# Altium footprint library CAP AL TH D12.5 L5 H26.5.PCBLIB: 1 footprints
Each footprint in its own frame and in the unit in brackets; x right, y up, seen from the top. Pads: shape width x height; smd on the part's side, far side on the other; paste and mask are expansions set on the pad; w line width, h text height; cw(c..) or ccw(c..) is an arc to the next point about the centre after c.
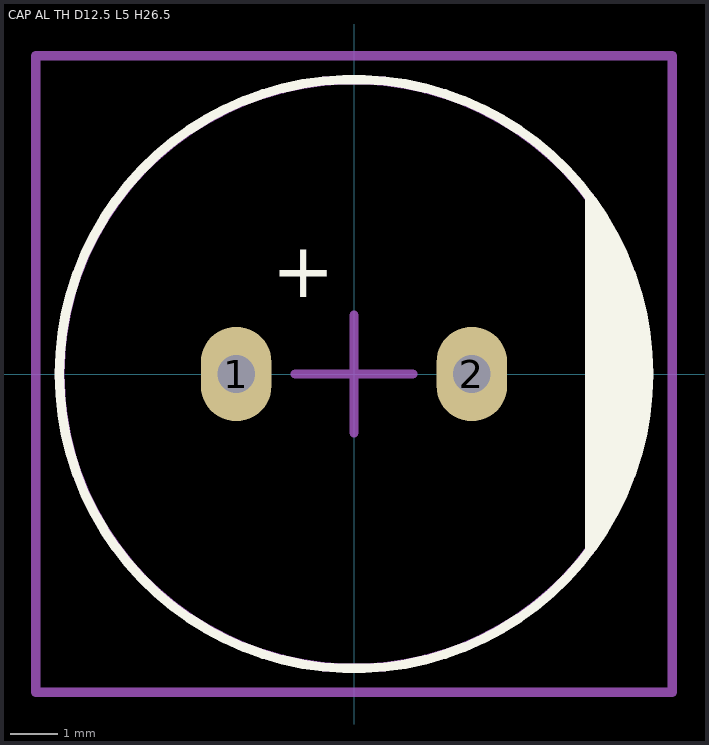
[diagram p0: the footprint, top view; thin cyan lines are the x and y axes]

## CAP AL TH D12.5 L5 H26.5 [mm] "12.5MM Diameter, 5MM Lead Spacing Aluminium Capacitor"
height 26.5
pads (2):
  oval 1.5x2 hole 0.8: 1(-2.5,0) 2(2.5,0)
Top Overlay:
  circle w0.2: c0,0 r6.25
  region: 5,-3.75 5,3.75 5.75,2.5 6.25,1 6.25,0 6,-1.5 5.75,-2.5
  lines w0.2: 5,-3.75 5,3.75
  text "+" at -1.75,1.25 h2
Mechanical 13:
  circle w0.2: c0,0 r6.241
  lines w0.2: 5,-3.75 5,3.75
Mechanical 15:
  lines w0.2: -1.25,0 1.25,0 ; 0,-1.25 0,1.25 ; -6.75,-6.75 0,-6.75 6.75,-6.75 6.75,0 6.75,6.75 0,6.75 -6.75,6.75 -6.75,0 -6.75,-6.75
3D body "CAP ALTH D-12.5MM L-5.0MM H-26.5MM.STEP": height 26.7, standoff -3, extent -6.25,-6.25 6.25,6.25